# EAGLE library part PER561-P115-N0015 (library PER561-P115-N0015)
56 mm Low Profile Incremental Ring Encoder Source: Datasheet <https://www.bourns.com/engineering/PER56/PER56.stp>
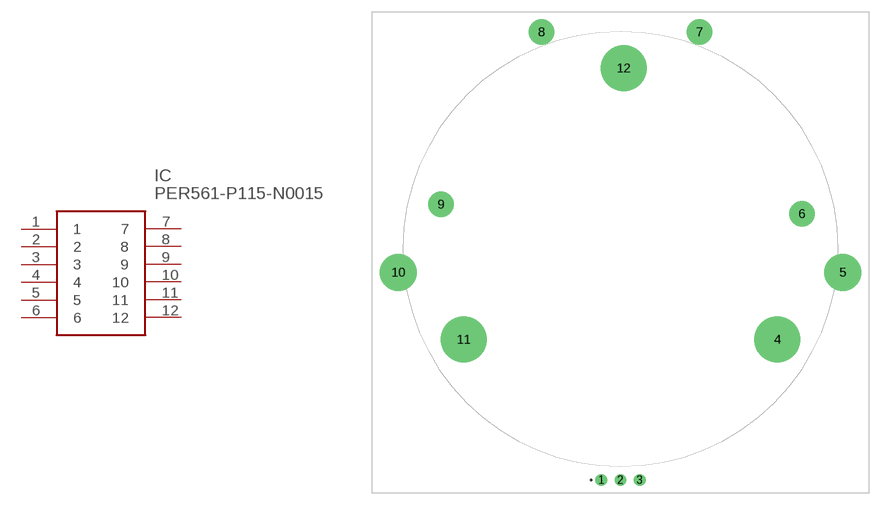
[diagram p0: symbol with the pads of PER561P115N0015; footprint PER561P115N0015]

Designator prefix IC

## PER561-P115-N0015 (Arrow_Part_Number: PER561-P115-N0015; Arrow_Price-Stock: https://www.arrow.com/en/products/per561-p115-n0015/bourns?region=nac; Description: 56 mm Low Profile Incremental Ring Encoder; Height: 10.95mm; Manufacturer_Name: Bourns; Manufacturer_Part_Number: PER561-P115-N0015; Mouser_Part_Number: 652-PER561P115N0015; Mouser_Price-Stock: https://www.mouser.co.uk/ProductDetail/Bourns/PER561-P115-N0015?qs=IS%252B4QmGtzzrAUR9c1BGEfg%3D%3D)  [PER561P115N0015]
1  1
2  2
3  3
4  4
5  5
6  6
7  7
8  8
9  9
10  10
11  11
12  12

## Footprint PER561P115N0015 (pad centres in mm)
PER561-P115-N0015
drill 1 pad 1.5: 1 0,0; 2 2.5,0; 3 5,0
drill 4 pad 6: 4 22.846,18.253; 11 -17.846,18.253; 12 2.91,53.493
drill 3.2 pad 4.8: 5 31.341,26.969; 10 -26.341,26.969
drill 2.2 pad 3.3: 6 26.059,34.579; 7 12.761,58.191; 8 -7.761,58.191; 9 -20.787,35.806